# EAGLE library part SI8435 (library silicon-labs)
Si8435 3 Channel (3/0) Digital Isolator Silicon Labs Si84xx ISOpro digital isolator series. The Si84xx ISOpro digital isolators provide low power galvanic isolation for digital signals. The '35 part has all three signals in the same direction, with no output enable. They come in speeds of 1Mbps and 150Mbps, and isolation ratings of 1KV, 2.5KV and 5KV. The independent sides use 2.7-5.5V supplies and draw under 5mA per channel. http://www.silabs.com/Support%20Documents/TechnicalDocs/Si823x.pdf Donald Becker
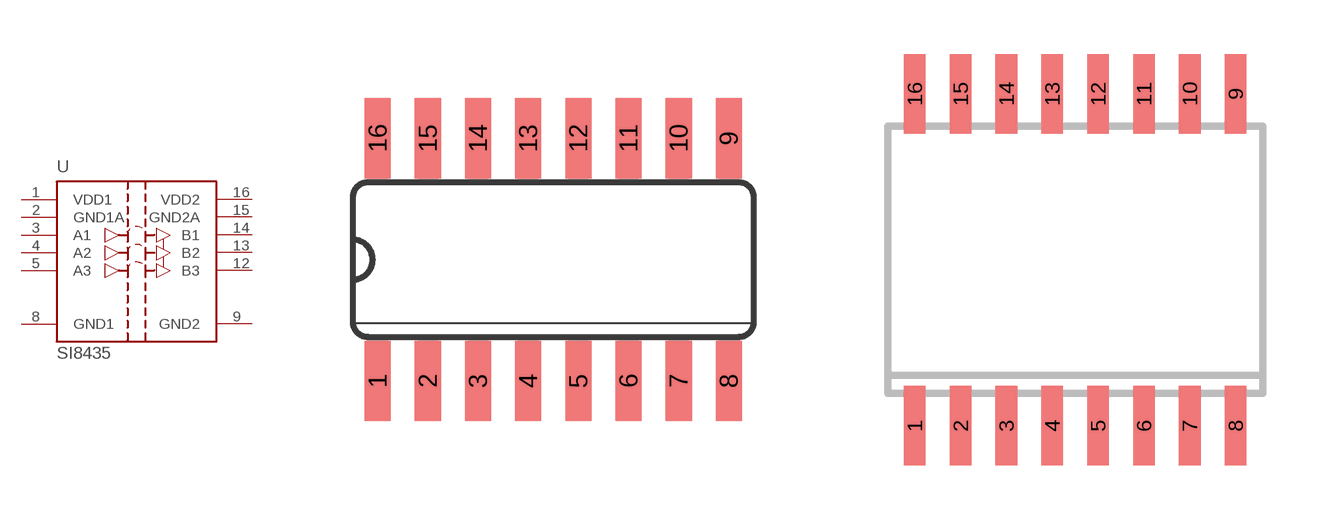
[diagram p6: symbol with the pads of SO16; footprints SO16, SO16W]

Designator prefix -

## SI8435IS1  [SO16]
1  VDD1  pwr
2  GND1A  sup
3  A1  in
4  A2  in
5  A3  in
8  GND1  sup
9  GND2  sup
12  B3  out
13  B2  out
14  B1  out
15  GND2A  sup
16  VDD2  pwr

## SI8435IS  [SO16W]
Pads as for SO16

## Footprint SO16 (pad centres in mm)
SO-16 Small Outline package 150 mil SOIC16 Small Outline Integrated Circuit 16 pin narrow SOIC16 / SO-16 Narrow body 0.150", JEDEC MS-012
smd 0.66 x 2.032: 1 -4.445,-3.073; 2 -3.175,-3.073; 3 -1.905,-3.073; 4 -0.635,-3.073; 5 0.635,-3.073; 6 1.905,-3.073; 7 3.175,-3.073; 8 4.445,-3.073; 9 4.445,3.073; 10 3.175,3.073; 11 1.905,3.073; 12 0.635,3.073; 13 -0.635,3.073; 14 -1.905,3.073; 15 -3.175,3.073; 16 -4.445,3.073

## Footprint SO16W (pad centres in mm)
SOIC16_W Small Outline Integrated Circuit 16 pin 0.300 wide SOIC16_W SMALL OUTLINE INTEGRATED CIRCUIT 16 pin Wide SOIC16-W Wide body (RW-16) 0.3", JEDEC MS-013-AA
smd 0.6 x 2.2: 1 -4.445,-4.6; 2 -3.175,-4.6; 3 -1.905,-4.6; 4 -0.635,-4.6; 5 0.635,-4.6; 6 1.905,-4.6; 7 3.175,-4.6; 8 4.445,-4.6; 9 4.445,4.6; 10 3.175,4.6; 11 1.905,4.6; 12 0.635,4.6; 13 -0.635,4.6; 14 -1.905,4.6; 15 -3.175,4.6; 16 -4.445,4.6